# Altium schematic symbol library Supervisor.SchLib: 1 symbol
Pins are listed as number, name and electrical type; pins without a type are passive.

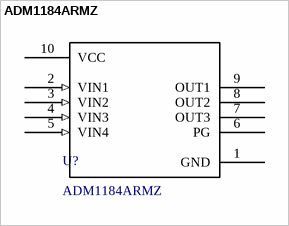
[diagram p0: symbol ADM1184ARMZ]

## ADM1184ARMZ
designator U?
Supervisor Open Drain or Open Collector 4 Channel 10-MSOP; Manufacturer 1: Analog Devices Inc.; Manufacturer Part Number 1: ADM1184ARMZ-ND; Supplier 1: Digi-Key; Supplier Part Number 1: ADM1184ARMZ-ND
footprint TSSOP50P490X110-10N (TSSOP, 10-Leads, Body 3.00x3.00mm, Pitch 0.50mm, IPC Medium Density)
pins: 1 GND, 2 VIN1 (in), 3 VIN2 (in), 4 VIN3 (in), 5 VIN4 (in), 6 PG (oc), 7 OUT3 (oc), 8 OUT2 (oc), 9 OUT1 (oc), 10 VCC